# Altium footprint library DRC.PcbLib: 36 footprints (part 2 of 3)
Each footprint in its own frame and in the unit in brackets; x right, y up, seen from the top. Pads: shape width x height; smd on the part's side, far side on the other; paste and mask are expansions set on the pad; w line width, h text height; cw(c..) or ccw(c..) is an arc to the next point about the centre after c.
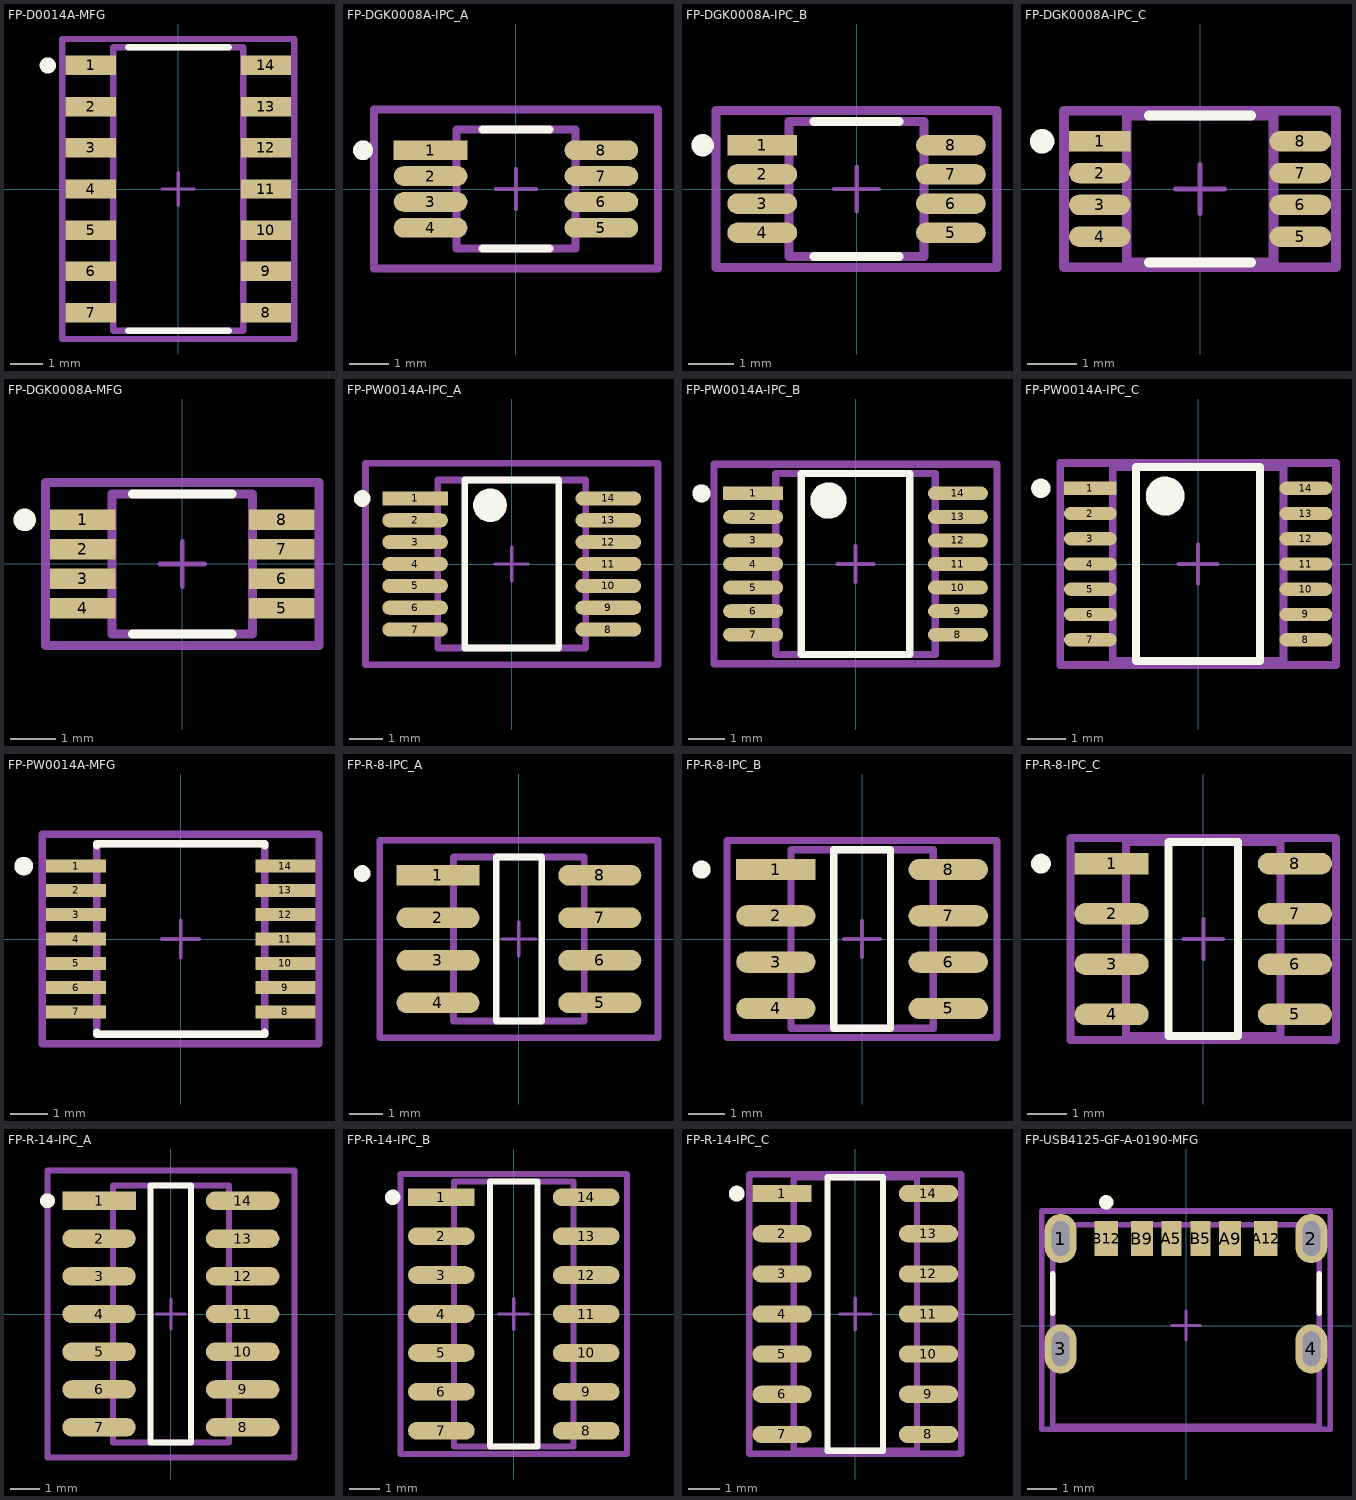
[diagram p1: the footprints below, top view; thin cyan lines are the x and y axes]

## FP-D0014A-MFG [mm]
pads (14):
  rect 1.55x0.6 smd paste-1000 mask+0: 1(-2.7,3.81) 2(-2.7,2.54) 3(-2.7,1.27) 4(-2.7,0) 5(-2.7,-1.27) 6(-2.7,-2.54) 7(-2.7,-3.81) 8(2.7,-3.81) 9(2.7,-2.54) 10(2.7,-1.27) 11(2.7,0) 12(2.7,1.27) 13(2.7,2.54) 14(2.7,3.81)
Top Overlay:
  circle w0.25: c-4.025,3.81 r0.125
  lines w0.2: -1.55,-4.375 1.55,-4.375 ; -1.55,4.375 1.55,4.375
Top Paste:
  rectangle: 1.95,-4.085 3.45,-3.535
  rectangle: 1.95,-2.815 3.45,-2.265
  rectangle: 1.95,-1.545 3.45,-0.995
  rectangle: 1.95,-0.275 3.45,0.275
  rectangle: 1.95,0.995 3.45,1.545
  rectangle: 1.95,2.265 3.45,2.815
  rectangle: 1.95,3.535 3.45,4.085
  rectangle: -3.45,-4.085 -1.95,-3.535
  rectangle: -3.45,-2.815 -1.95,-2.265
  rectangle: -3.45,-1.545 -1.95,-0.995
  rectangle: -3.45,-0.275 -1.95,0.275
  rectangle: -3.45,0.995 -1.95,1.545
  rectangle: -3.45,2.265 -1.95,2.815
  rectangle: -3.45,3.535 -1.95,4.085
Top 3D Body:
  lines w0.2: -2,-4.375 2,-4.375 2,4.375 -2,4.375 -2,-4.375
Top Courtyard:
  lines w0.2: -3.575,-4.625 3.575,-4.625 3.575,4.625 -3.575,4.625 -3.575,-4.625
Top Assembly:
  lines w0.2: -3.575,-4.625 3.575,-4.625 3.575,4.625 -3.575,4.625 -3.575,-4.625
  text ".Designator" at 0,0.188 h1
Top Component Center:
  lines w0.1: -0.5,0 0.5,0 ; 0,-0.5 0,0.5
3D body "IC_Texas_Instruments_OPA4191IDR_eec.STEP": height 0.25, standoff 0, extent -3.575,-4.625 3.575,4.625

## FP-DGK0008A-IPC_A [mm]
pads (8):
  rect 1.857x0.498 smd paste+0 mask+0: 1(-2.151,0.975)
  rrect100% 1.857x0.498 smd paste+0 mask+0: 2(-2.151,0.325) 3(-2.151,-0.325) 4(-2.151,-0.975) 5(2.151,-0.975) 6(2.151,-0.325) 7(2.151,0.325) 8(2.151,0.975)
Top Overlay:
  circle w0.25: c-3.854,0.975 r0.125
  lines w0.2: -0.848,-1.5 0.848,-1.5 ; -0.848,1.5 0.848,1.5
Top 3D Body:
  lines w0.2: -1.5,-1.5 -1.5,1.5 1.5,1.5 1.5,-1.5 -1.5,-1.5
Top Courtyard:
  lines w0.2: -3.579,-2 -3.579,2 3.579,2 3.579,-2 -3.579,-2
Top Assembly:
  lines w0.2: -3.579,-2 -3.579,2 3.579,2 3.579,-2 -3.579,-2
  text ".Designator" at 0,0.188 h1
Top Component Center:
  lines w0.1: -0.5,0 0.5,0 ; 0,-0.5 0,0.5
3D body "IC_Texas_Instruments_TCA9803DGKR_eec.STEP": height 0.25, standoff 0, extent -3.579,-2 3.579,2

## FP-DGK0008A-IPC_B [mm]
pads (8):
  rect 1.557x0.458 smd paste+0 mask+0: 1(-2.101,0.975)
  rrect100% 1.557x0.458 smd paste+0 mask+0: 2(-2.101,0.325) 3(-2.101,-0.325) 4(-2.101,-0.975) 5(2.101,-0.975) 6(2.101,-0.325) 7(2.101,0.325) 8(2.101,0.975)
Top Overlay:
  circle w0.25: c-3.429,0.975 r0.125
  lines w0.2: -0.948,-1.5 0.948,-1.5 ; -0.948,1.5 0.948,1.5
Top 3D Body:
  lines w0.2: -1.5,-1.5 1.5,-1.5 1.5,1.5 -1.5,1.5 -1.5,-1.5
Top Courtyard:
  lines w0.2: -3.129,-1.75 3.129,-1.75 3.129,1.75 -3.129,1.75 -3.129,-1.75
Top Assembly:
  lines w0.2: -3.129,-1.75 3.129,-1.75 3.129,1.75 -3.129,1.75 -3.129,-1.75
  text ".Designator" at 0,0.188 h1
Top Component Center:
  lines w0.1: -0.5,0 0.5,0 ; 0,-0.5 0,0.5
3D body "IC_Texas_Instruments_TCA9803DGKR_eec.STEP": height 0.25, standoff 0, extent -3.129,-1.75 3.129,1.75

## FP-DGK0008A-IPC_C [mm]
pads (8):
  rect 1.257x0.418 smd paste+0 mask+0: 1(-2.051,0.975)
  rrect100% 1.257x0.418 smd paste+0 mask+0: 2(-2.051,0.325) 3(-2.051,-0.325) 4(-2.051,-0.975) 5(2.051,-0.975) 6(2.051,-0.325) 7(2.051,0.325) 8(2.051,0.975)
Top Overlay:
  circle w0.25: c-3.229,0.975 r0.125
  lines w0.2: -1.048,-1.5 1.048,-1.5 ; -1.048,1.5 1.048,1.5
Top 3D Body:
  lines w0.2: -1.5,-1.5 1.5,-1.5 1.5,1.5 -1.5,1.5 -1.5,-1.5
Top Courtyard:
  lines w0.2: -2.779,-1.6 2.779,-1.6 2.779,1.6 -2.779,1.6 -2.779,-1.6
Top Assembly:
  lines w0.2: -2.779,-1.6 2.779,-1.6 2.779,1.6 -2.779,1.6 -2.779,-1.6
  text ".Designator" at 0,0.188 h1
Top Component Center:
  lines w0.1: -0.5,0 0.5,0 ; 0,-0.5 0,0.5
3D body "IC_Texas_Instruments_TCA9803DGKR_eec.STEP": height 0.25, standoff 0, extent -2.779,-1.6 2.779,1.6

## FP-DGK0008A-MFG [mm]
pads (8):
  rect 1.45x0.45 smd paste+0 mask+0: 1(-2.2,0.975) 2(-2.2,0.325) 3(-2.2,-0.325) 4(-2.2,-0.975) 5(2.2,-0.975) 6(2.2,-0.325) 7(2.2,0.325) 8(2.2,0.975)
Top Overlay:
  circle w0.25: c-3.485,0.975 r0.125
  lines w0.2: -1.1,-1.55 1.1,-1.55 ; -1.1,1.55 1.1,1.55
Top 3D Body:
  lines w0.2: -1.55,-1.55 -1.55,1.55 1.55,1.55 1.55,-1.55 -1.55,-1.55
Top Courtyard:
  lines w0.2: -3.025,-1.8 -3.025,1.8 3.025,1.8 3.025,-1.8 -3.025,-1.8
Top Assembly:
  lines w0.2: -3.025,-1.8 -3.025,1.8 3.025,1.8 3.025,-1.8 -3.025,-1.8
  text ".Designator" at 0,0.188 h1
Top Component Center:
  lines w0.1: -0.5,0 0.5,0 ; 0,-0.5 0,0.5
3D body "IC_Texas_Instruments_TCA9803DGKR_eec.STEP": height 0.25, standoff 0, extent -3.025,-1.8 3.025,1.8

## FP-PW0014A-IPC_A [mm]
pads (14):
  rect 1.955x0.421 smd paste+0 mask+0: 1(-2.875,1.95)
  rrect100% 1.955x0.421 smd paste+0 mask+0: 2(-2.875,1.3) 3(-2.875,0.65) 4(-2.875,0) 5(-2.875,-0.65) 6(-2.875,-1.3) 7(-2.875,-1.95) 8(2.875,-1.95) 9(2.875,-1.3) 10(2.875,-0.65) 11(2.875,0) 12(2.875,0.65) 13(2.875,1.3) 14(2.875,1.95)
Top Overlay:
  circle w0.5: c-0.648,1.75 r0.25
  circle w0.25: c-4.45,1.95 r0.125
  lines w0.2: -1.398,-2.5 1.398,-2.5 1.398,2.5 -1.398,2.5 -1.398,-2.5
Top 3D Body:
  lines w0.2: -2.2,-2.5 2.2,-2.5 2.2,2.5 -2.2,2.5 -2.2,-2.5
Top Courtyard:
  lines w0.2: -4.353,-3 4.353,-3 4.353,3 -4.353,3 -4.353,-3
Top Assembly:
  lines w0.2: -4.353,-3 4.353,-3 4.353,3 -4.353,3 -4.353,-3
  text ".Designator" at 0,0.188 h1
Top Component Center:
  lines w0.1: -0.5,0 0.5,0 ; 0,-0.5 0,0.5
3D body "IC_Texas_Instruments_BQ34110PWR_eec.STEP": height 0.25, standoff 0, extent -4.353,-3 4.353,3

## FP-PW0014A-IPC_B [mm]
pads (14):
  rect 1.655x0.381 smd paste+0 mask+0: 1(-2.825,1.95)
  rrect100% 1.655x0.381 smd paste+0 mask+0: 2(-2.825,1.3) 3(-2.825,0.65) 4(-2.825,0) 5(-2.825,-0.65) 6(-2.825,-1.3) 7(-2.825,-1.95) 8(2.825,-1.95) 9(2.825,-1.3) 10(2.825,-0.65) 11(2.825,0) 12(2.825,0.65) 13(2.825,1.3) 14(2.825,1.95)
Top Overlay:
  circle w0.5: c-0.748,1.75 r0.25
  circle w0.25: c-4.25,1.95 r0.125
  lines w0.2: -1.498,-2.5 1.498,-2.5 1.498,2.5 -1.498,2.5 -1.498,-2.5
Top 3D Body:
  lines w0.2: -2.2,-2.5 2.2,-2.5 2.2,2.5 -2.2,2.5 -2.2,-2.5
Top Courtyard:
  lines w0.2: -3.903,-2.75 3.903,-2.75 3.903,2.75 -3.903,2.75 -3.903,-2.75
Top Assembly:
  lines w0.2: -3.903,-2.75 3.903,-2.75 3.903,2.75 -3.903,2.75 -3.903,-2.75
  text ".Designator" at 0,0.188 h1
Top Component Center:
  lines w0.1: -0.5,0 0.5,0 ; 0,-0.5 0,0.5
3D body "IC_Texas_Instruments_BQ34110PWR_eec.STEP": height 0.25, standoff 0, extent -3.903,-2.75 3.903,2.75

## FP-PW0014A-IPC_C [mm]
pads (14):
  rect 1.355x0.341 smd paste+0 mask+0: 1(-2.775,1.95)
  rrect100% 1.355x0.341 smd paste+0 mask+0: 2(-2.775,1.3) 3(-2.775,0.65) 4(-2.775,0) 5(-2.775,-0.65) 6(-2.775,-1.3) 7(-2.775,-1.95) 8(2.775,-1.95) 9(2.775,-1.3) 10(2.775,-0.65) 11(2.775,0) 12(2.775,0.65) 13(2.775,1.3) 14(2.775,1.95)
Top Overlay:
  circle w0.25: c-4.05,1.95 r0.125
  circle w0.5: c-0.848,1.75 r0.25
  lines w0.2: -1.598,-2.5 -1.598,2.5 1.598,2.5 1.598,-2.5 -1.598,-2.5
Top 3D Body:
  lines w0.2: -2.2,-2.5 -2.2,2.5 2.2,2.5 2.2,-2.5 -2.2,-2.5
Top Courtyard:
  lines w0.2: -3.553,-2.6 -3.553,2.6 3.553,2.6 3.553,-2.6 -3.553,-2.6
Top Assembly:
  lines w0.2: -3.553,-2.6 -3.553,2.6 3.553,2.6 3.553,-2.6 -3.553,-2.6
  text ".Designator" at 0,0.188 h1
Top Component Center:
  lines w0.1: -0.5,0 0.5,0 ; 0,-0.5 0,0.5
3D body "IC_Texas_Instruments_BQ34110PWR_eec.STEP": height 0.25, standoff 0, extent -3.553,-2.6 3.553,2.6

## FP-PW0014A-MFG [mm]
pads (14):
  rect 1.6x0.35 smd paste-1000 mask+0: 1(-2.8,1.95) 2(-2.8,1.3) 3(-2.8,0.65) 4(-2.8,0) 5(-2.8,-0.65) 6(-2.8,-1.3) 7(-2.8,-1.95) 8(2.8,-1.95) 9(2.8,-1.3) 10(2.8,-0.65) 11(2.8,0) 12(2.8,0.65) 13(2.8,1.3) 14(2.8,1.95)
Top Overlay:
  circle w0.25: c-4.2,1.95 r0.125
  lines w0.2: -2.25,-2.5 -2.25,-2.55 2.25,-2.55 2.25,-2.5 ; -2.25,2.5 -2.25,2.55 2.25,2.55 2.25,2.5
Top Paste:
  rectangle: 2.025,1.8 3.575,2.1
  rectangle: 2.025,1.15 3.575,1.45
  rectangle: 2.025,0.5 3.575,0.8
  rectangle: 2.025,-0.15 3.575,0.15
  rectangle: 2.025,-0.8 3.575,-0.5
  rectangle: 2.025,-1.45 3.575,-1.15
  rectangle: 2.025,-2.1 3.575,-1.8
  rectangle: -3.575,1.8 -2.025,2.1
  rectangle: -3.575,1.15 -2.025,1.45
  rectangle: -3.575,0.5 -2.025,0.8
  rectangle: -3.575,-0.15 -2.025,0.15
  rectangle: -3.575,-0.8 -2.025,-0.5
  rectangle: -3.575,-1.45 -2.025,-1.15
  rectangle: -3.575,-2.1 -2.025,-1.8
Top 3D Body:
  lines w0.2: -2.25,-2.55 2.25,-2.55 2.25,2.55 -2.25,2.55 -2.25,-2.55
Top Courtyard:
  lines w0.2: -3.7,-2.8 3.7,-2.8 3.7,2.8 -3.7,2.8 -3.7,-2.8
Top Assembly:
  lines w0.2: -3.7,-2.8 3.7,-2.8 3.7,2.8 -3.7,2.8 -3.7,-2.8
  text ".Designator" at 0,0.188 h1
Top Component Center:
  lines w0.1: -0.5,0 0.5,0 ; 0,-0.5 0,0.5
3D body "IC_Texas_Instruments_BQ34110PWR_eec.STEP": height 0.25, standoff 0, extent -3.7,-2.8 3.7,2.8

## FP-R-8-IPC_A [mm]
pads (8):
  rect 2.474x0.622 smd paste+0 mask+0: 1(-2.416,1.905)
  rrect100% 2.474x0.622 smd paste+0 mask+0: 2(-2.416,0.635) 3(-2.416,-0.635) 4(-2.416,-1.905) 5(2.416,-1.905) 6(2.416,-0.635) 7(2.416,0.635) 8(2.416,1.905)
Top Overlay:
  circle w0.25: c-4.678,1.955 r0.125
  lines w0.2: -0.679,-2.45 0.679,-2.45 0.679,2.45 -0.679,2.45 -0.679,-2.45
Top 3D Body:
  lines w0.2: -1.95,-2.45 1.95,-2.45 1.95,2.45 -1.95,2.45 -1.95,-2.45
Top Courtyard:
  lines w0.2: -4.153,-2.95 4.153,-2.95 4.153,2.95 -4.153,2.95 -4.153,-2.95
Top Assembly:
  lines w0.2: -4.153,-2.95 4.153,-2.95 4.153,2.95 -4.153,2.95 -4.153,-2.95
  text ".Designator" at 0,0.188 h1
Top Component Center:
  lines w0.1: -0.5,0 0.5,0 ; 0,-0.5 0,0.5
3D body "IC_Analog_Devices_AD629ARZ_eec.STEP": height 0.25, standoff 0, extent -4.153,-2.95 4.153,2.95

## FP-R-8-IPC_B [mm]
pads (8):
  rect 2.174x0.582 smd paste+0 mask+0: 1(-2.366,1.905)
  rrect100% 2.174x0.582 smd paste+0 mask+0: 2(-2.366,0.635) 3(-2.366,-0.635) 4(-2.366,-1.905) 5(2.366,-1.905) 6(2.366,-0.635) 7(2.366,0.635) 8(2.366,1.905)
Top Overlay:
  circle w0.25: c-4.403,1.905 r0.125
  lines w0.2: -0.779,-2.45 -0.779,2.45 0.779,2.45 0.779,-2.45 -0.779,-2.45
Top 3D Body:
  lines w0.2: -1.95,-2.45 -1.95,2.45 1.95,2.45 1.95,-2.45 -1.95,-2.45
Top Courtyard:
  lines w0.2: -3.703,-2.7 -3.703,2.7 3.703,2.7 3.703,-2.7 -3.703,-2.7
Top Assembly:
  lines w0.2: -3.703,-2.7 -3.703,2.7 3.703,2.7 3.703,-2.7 -3.703,-2.7
  text ".Designator" at 0,0.188 h1
Top Component Center:
  lines w0.1: -0.5,0 0.5,0 ; 0,-0.5 0,0.5
3D body "IC_Analog_Devices_AD629ARZ_eec.STEP": height 0.25, standoff 0, extent -3.703,-2.7 3.703,2.7

## FP-R-8-IPC_C [mm]
pads (8):
  rect 1.874x0.542 smd paste+0 mask+0: 1(-2.316,1.905)
  rrect100% 1.874x0.542 smd paste+0 mask+0: 2(-2.316,0.635) 3(-2.316,-0.635) 4(-2.316,-1.905) 5(2.316,-1.905) 6(2.316,-0.635) 7(2.316,0.635) 8(2.316,1.905)
Top Overlay:
  circle w0.25: c-4.103,1.905 r0.125
  lines w0.2: -0.879,-2.45 -0.879,2.45 0.879,2.45 0.879,-2.45 -0.879,-2.45
Top 3D Body:
  lines w0.2: -1.95,-2.45 -1.95,2.45 1.95,2.45 1.95,-2.45 -1.95,-2.45
Top Courtyard:
  lines w0.2: -3.353,-2.55 -3.353,2.55 3.353,2.55 3.353,-2.55 -3.353,-2.55
Top Assembly:
  lines w0.2: -3.353,-2.55 -3.353,2.55 3.353,2.55 3.353,-2.55 -3.353,-2.55
  text ".Designator" at 0,0.188 h1
Top Component Center:
  lines w0.1: -0.5,0 0.5,0 ; 0,-0.5 0,0.5
3D body "IC_Analog_Devices_AD629ARZ_eec.STEP": height 0.25, standoff 0, extent -3.353,-2.55 3.353,2.55

## FP-R-14-IPC_A [mm]
pads (14):
  rect 2.474x0.622 smd paste+0 mask+0: 1(-2.416,3.81)
  rrect100% 2.474x0.622 smd paste+0 mask+0: 2(-2.416,2.54) 3(-2.416,1.27) 4(-2.416,0) 5(-2.416,-1.27) 6(-2.416,-2.54) 7(-2.416,-3.81) 8(2.416,-3.81) 9(2.416,-2.54) 10(2.416,-1.27) 11(2.416,0) 12(2.416,1.27) 13(2.416,2.54) 14(2.416,3.81)
Top Overlay:
  circle w0.25: c-4.153,3.81 r0.125
  lines w0.2: -0.679,-4.325 0.679,-4.325 0.679,4.325 -0.679,4.325 -0.679,-4.325
Top 3D Body:
  lines w0.2: -1.95,-4.325 1.95,-4.325 1.95,4.325 -1.95,4.325 -1.95,-4.325
Top Courtyard:
  lines w0.2: -4.153,-4.825 4.153,-4.825 4.153,4.825 -4.153,4.825 -4.153,-4.825
Top Assembly:
  lines w0.2: -4.153,-4.825 4.153,-4.825 4.153,4.825 -4.153,4.825 -4.153,-4.825
  text ".Designator" at 0,0.188 h1
Top Component Center:
  lines w0.1: -0.5,0 0.5,0 ; 0,-0.5 0,0.5
3D body "IC_Analog_Devices_SSM2166SZ_eec.STEP": height 0.25, standoff 0, extent -4.153,-4.825 4.153,4.825

## FP-R-14-IPC_B [mm]
pads (14):
  rect 2.174x0.582 smd paste+0 mask+0: 1(-2.366,3.81)
  rrect100% 2.174x0.582 smd paste+0 mask+0: 2(-2.366,2.54) 3(-2.366,1.27) 4(-2.366,0) 5(-2.366,-1.27) 6(-2.366,-2.54) 7(-2.366,-3.81) 8(2.366,-3.81) 9(2.366,-2.54) 10(2.366,-1.27) 11(2.366,0) 12(2.366,1.27) 13(2.366,2.54) 14(2.366,3.81)
Top Overlay:
  circle w0.25: c-3.953,3.81 r0.125
  lines w0.2: -0.779,-4.325 0.779,-4.325 0.779,4.325 -0.779,4.325 -0.779,-4.325
Top 3D Body:
  lines w0.2: -1.95,-4.325 1.95,-4.325 1.95,4.325 -1.95,4.325 -1.95,-4.325
Top Courtyard:
  lines w0.2: -3.703,-4.575 3.703,-4.575 3.703,4.575 -3.703,4.575 -3.703,-4.575
Top Assembly:
  lines w0.2: -3.703,-4.575 3.703,-4.575 3.703,4.575 -3.703,4.575 -3.703,-4.575
  text ".Designator" at 0,0.188 h1
Top Component Center:
  lines w0.1: -0.5,0 0.5,0 ; 0,-0.5 0,0.5
3D body "IC_Analog_Devices_SSM2166SZ_eec.STEP": height 0.25, standoff 0, extent -3.703,-4.575 3.703,4.575

## FP-R-14-IPC_C [mm]
pads (14):
  rect 1.874x0.542 smd paste+0 mask+0: 1(-2.316,3.81)
  rrect100% 1.874x0.542 smd paste+0 mask+0: 2(-2.316,2.54) 3(-2.316,1.27) 4(-2.316,0) 5(-2.316,-1.27) 6(-2.316,-2.54) 7(-2.316,-3.81) 8(2.316,-3.81) 9(2.316,-2.54) 10(2.316,-1.27) 11(2.316,0) 12(2.316,1.27) 13(2.316,2.54) 14(2.316,3.81)
Top Overlay:
  circle w0.25: c-3.753,3.81 r0.125
  lines w0.2: -0.879,-4.325 0.879,-4.325 0.879,4.325 -0.879,4.325 -0.879,-4.325
Top 3D Body:
  lines w0.2: -1.95,-4.325 1.95,-4.325 1.95,4.325 -1.95,4.325 -1.95,-4.325
Top Courtyard:
  lines w0.2: -3.353,-4.425 3.353,-4.425 3.353,4.425 -3.353,4.425 -3.353,-4.425
Top Assembly:
  lines w0.2: -3.353,-4.425 3.353,-4.425 3.353,4.425 -3.353,4.425 -3.353,-4.425
  text ".Designator" at 0,0.188 h1
Top Component Center:
  lines w0.1: -0.5,0 0.5,0 ; 0,-0.5 0,0.5
3D body "IC_Analog_Devices_SSM2166SZ_eec.STEP": height 0.25, standoff 0, extent -3.353,-4.425 3.353,4.425

## FP-USB4125-GF-A-0190-MFG [mm]
pads (10):
  rrect100% 1.1x1.7 hole 1.2 slot 0.6 at 0 deg paste-2539.97 mask+0: 1(-4.32,3) 2(4.32,3) 3(-4.32,-0.8) 4(4.32,-0.8)
  rect 0.7x1.2 smd paste+0 mask+0: A5(-0.5,3) B5(0.5,3)
  rect 0.76x1.2 smd paste+0 mask+0: A9(1.52,3) B9(-1.52,3)
  rect 0.8x1.2 smd paste+0 mask+0: A12(2.75,3) B12(-2.75,3)
Top Overlay:
  circle w0.25: c-2.75,4.25 r0.125
  lines w0.2: -4.595,0.425 -4.595,1.775 ; 4.595,0.425 4.595,1.775
Top 3D Body:
  lines w0.2: -4.595,-3.475 4.595,-3.475 4.595,3.475 -4.595,3.475 -4.595,-3.475
Top Courtyard:
  lines w0.2: -4.97,-3.575 4.97,-3.575 4.97,3.95 -4.97,3.95 -4.97,-3.575
Top Assembly:
  lines w0.2: -4.97,-3.575 4.97,-3.575 4.97,3.95 -4.97,3.95 -4.97,-3.575
  text ".Designator" at 0,0.187 h1
Top Component Center:
  lines w0.1: -0.5,0 0.5,0 ; 0,-0.5 0,0.5
3D body "Conn_GCT_USB4125-GF-A-0190_eec.STEP": height 0.25, standoff 0, extent -4.97,-3.575 4.97,3.95